# Altium footprint library ComponentLibrary.PcbLib: 153 footprints (part 3 of 10)
Each footprint in its own frame and in the unit in brackets; x right, y up, seen from the top. Pads: shape width x height; smd on the part's side, far side on the other; paste and mask are expansions set on the pad; w line width, h text height; cw(c..) or ccw(c..) is an arc to the next point about the centre after c.
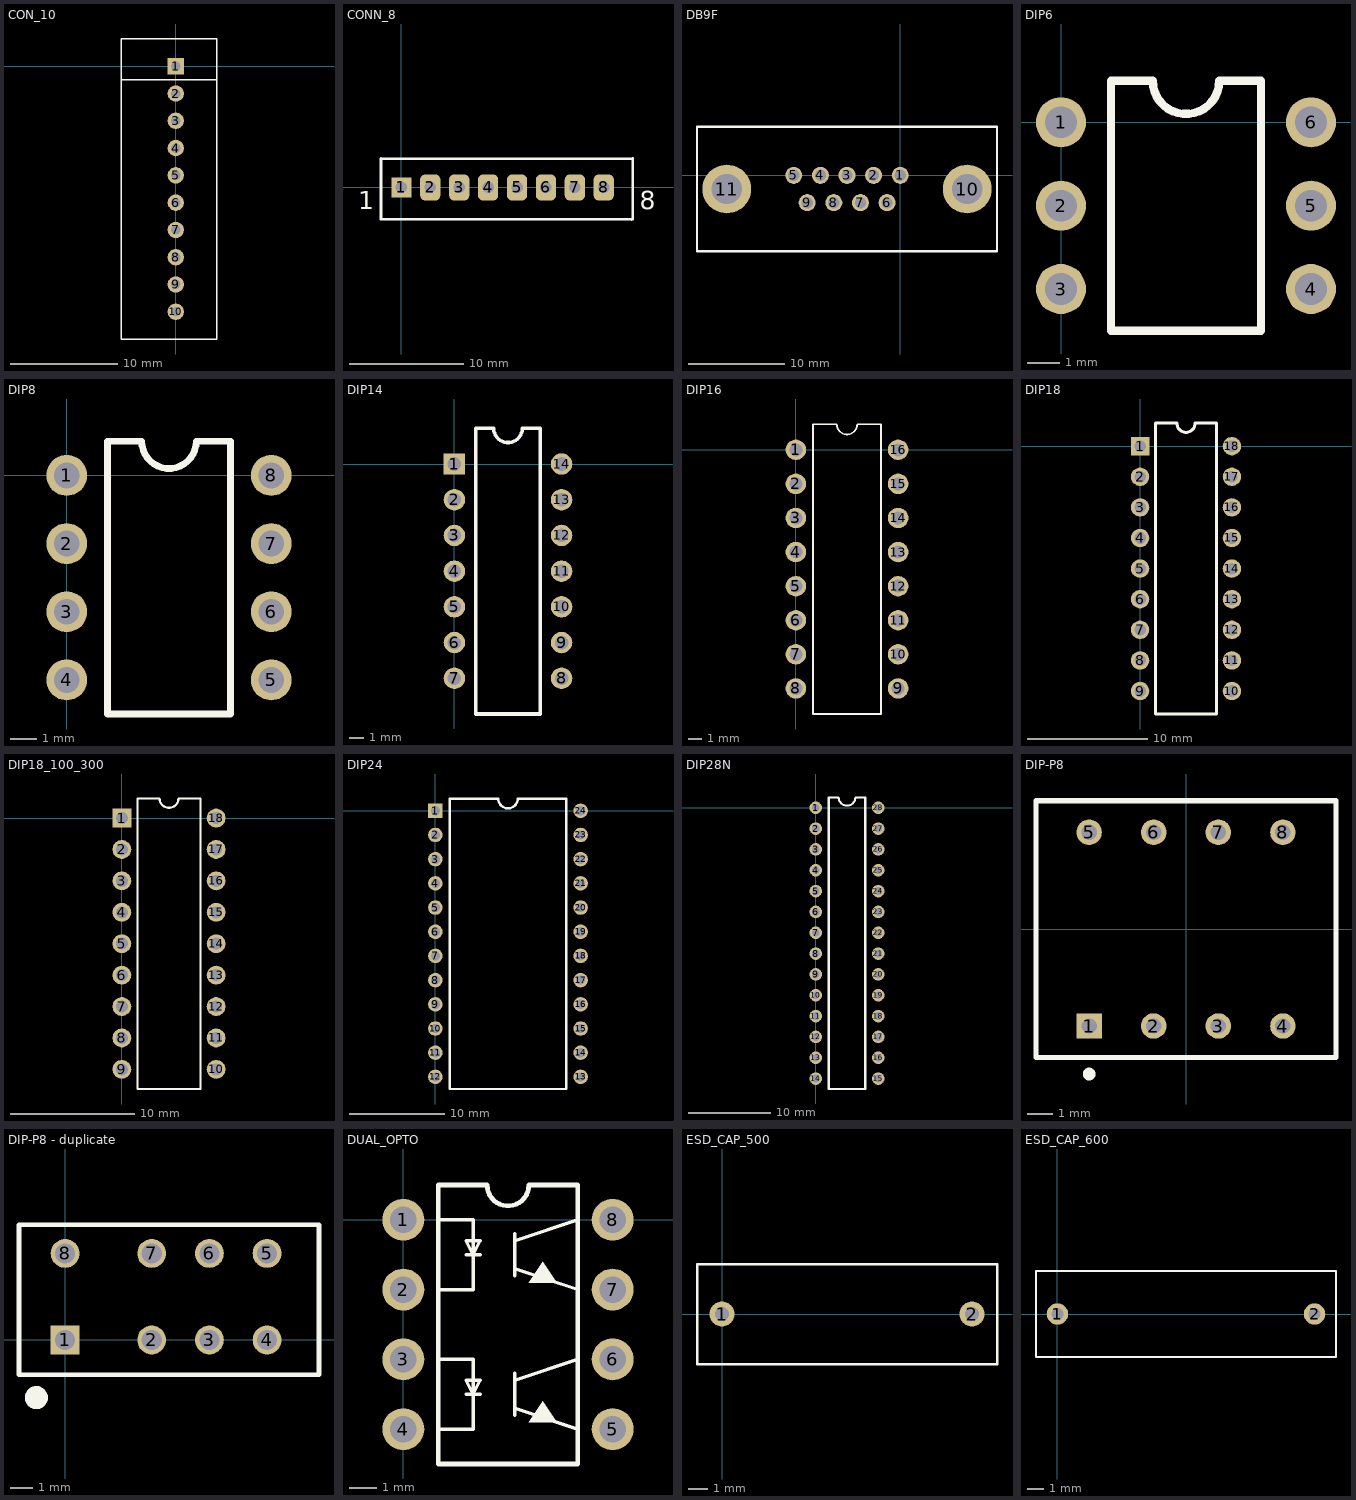
[diagram p2: the footprints below, top view; thin cyan lines are the x and y axes]

## CON_10 [mil]
pads (10):
  rect 60x60 hole 35: 1(0,0)
  round 60 hole 35: 2(0,-100) 3(0,-200) 4(0,-300) 5(0,-400) 6(0,-500) 7(0,-600) 8(0,-700) 9(0,-800) 10(0,-900)
Top Overlay:
  lines w5: -200,-50 150,-50 ; -200,-1000 150,-1000 150,100 -200,100 -200,-1000

## CONN_8 [mil]
pads (8):
  rect 70x70 hole 40: 1(0,0)
  rrect50% 70x90 hole 40: 2(100,0) 3(200,0) 4(300,0) 5(400,0) 6(500,0) 7(600,0) 8(700,0)
Top Overlay:
  lines w10: 796,-111 -70,-110 -70,100 796,99 ; 800,-110 800,100
  text "8" at 825,-75 h62.5
  text "1" at -150,-75 h62.5

## DB9F [mil]
pads (11):
  round 70 hole 46: 1(0,0) 2(-109,0) 3(-218,0) 4(-327,0) 5(-436,0) 6(-54,-112) 7(-163,-112) 8(-272,-112) 9(-381,-112)
  round 200 hole 124: 10(274,-56) 11(-710,-56)
Top Overlay:
  lines w10: -832,-311 -832,199 396,199 396,-311 -832,-311

## DIP6 [mil]
pads (6):
  round 60 hole 38: 1(0,0) 2(0,-100) 3(0,-200) 4(300,-200) 5(300,-100) 6(300,0)
Top Overlay:
  lines w10: 60,-250 60,50 110,50 ccw(c150,50) 190,50 240,50 240,-250 60,-250

## DIP8 [mil]
pads (8):
  round 60 hole 38: 1(0,0) 2(0,-100) 3(0,-200) 4(0,-300) 5(300,-300) 6(300,-200) 7(300,-100) 8(300,0)
Top Overlay:
  lines w10: 60,-350 240,-350 240,50 190,50 cw(c150,50) 110,50 60,50 60,-350

## DIP14 [mil]
pads (14):
  rect 60x60 hole 38: 1(0,0)
  round 60 hole 38: 2(0,-100) 3(0,-200) 4(0,-300) 5(0,-400) 6(0,-500) 7(0,-600) 8(300,-600) 9(300,-500) 10(300,-400) 11(300,-300) 12(300,-200) 13(300,-100) 14(300,0)
Top Overlay:
  lines w10: 60,-700 240,-700 240,100 190,100 cw(c150,100) 110,100 60,100 60,-700

## DIP16 [mil]
pads (16):
  round 60 hole 38: 1(0,0) 2(0,-100) 3(0,-200) 4(0,-300) 5(0,-400) 6(0,-500) 7(0,-600) 8(0,-700) 9(300,-700) 10(300,-600) 11(300,-500) 12(300,-400) 13(300,-300) 14(300,-200) 15(300,-100) 16(300,0)
Top Overlay:
  lines w5: 50,-775 50,75 120,75 ccw(c150,75) 180,75 250,75 250,-775 50,-775

## DIP18 [mil]
pads (18):
  rect 60x60 hole 38: 1(0,0)
  round 60 hole 38: 2(0,-100) 3(0,-200) 4(0,-300) 5(0,-400) 6(0,-500) 7(0,-600) 8(0,-700) 9(0,-800) 10(300,-800) 11(300,-700) 12(300,-600) 13(300,-500) 14(300,-400) 15(300,-300) 16(300,-200) 17(300,-100) 18(300,0)
Top Overlay:
  lines w10: 50,-875 50,75 120,75 ccw(c150,75) 180,75 250,75 250,-875 50,-875

## DIP18_100_300 [mil]
pads (18):
  rect 60x60 hole 38: 1(0,0)
  round 60 hole 38: 2(0,-100) 3(0,-200) 4(0,-300) 5(0,-400) 6(0,-500) 7(0,-600) 8(0,-700) 9(0,-800) 10(300,-800) 11(300,-700) 12(300,-600) 13(300,-500) 14(300,-400) 15(300,-300) 16(300,-200) 17(300,-100) 18(300,0)
Top Overlay:
  lines w7: 50,-862.5 250,-862.5 250,62.5 180,62.5 cw(c150,62.5) 120,62.5 50,62.5 50,-862.5

## DIP24 [mil]
pads (24):
  rect 60x60 hole 38: 1(0,0)
  round 60 hole 38: 2(0,-100) 3(0,-200) 4(0,-300) 5(0,-400) 6(0,-500) 7(0,-600) 8(0,-700) 9(0,-800) 10(0,-900) 11(0,-1000) 12(0,-1100) 13(600,-1100) 14(600,-1000) 15(600,-900) 16(600,-800) 17(600,-700) 18(600,-600) 19(600,-500) 20(600,-400) 21(600,-300) 22(600,-200) 23(600,-100) 24(600,0)
Top Overlay:
  lines w10: 60,-1150 540,-1150 540,50 340,50 cw(c300,50) 260,50 60,50 60,-1150

## DIP28N [mil]
pads (28):
  round 60 hole 38: 1(0,0) 2(0,-100) 3(0,-200) 4(0,-300) 5(0,-400) 6(0,-500) 7(0,-600) 8(0,-700) 9(0,-800) 10(0,-900) 11(0,-1000) 12(0,-1100) 13(0,-1200) 14(0,-1300) 15(300,-1300) 16(300,-1200) 17(300,-1100) 18(300,-1000) 19(300,-900) 20(300,-800) 21(300,-700) 22(300,-600) 23(300,-500) 24(300,-400) 25(300,-300) 26(300,-200) 27(300,-100) 28(300,0)
Top Overlay:
  lines w10: 62.5,-1350 237.5,-1350 237.5,50 190,50 cw(c150,50) 110,50 62.5,50 62.5,-1350

## DIP-P8 [mm] "Dual-Pole Dual-Throw Relay; 8 Leads"
pads (8):
  rect 1x1 hole 0.6: 1(-3.81,-3.81)
  round 1 hole 0.6: 2(-1.27,-3.81) 3(1.27,-3.81) 4(3.81,-3.81) 5(-3.81,3.81) 6(-1.27,3.81) 7(1.27,3.81) 8(3.81,3.81)
Top Overlay:
  circle w0.25: c-3.81,-5.7 r0.125
  lines w0.2: -5.9,-5.05 -5.9,-0.635 -5.9,5.05 5.9,5.05 5.9,-5.05 -5.9,-5.05

## DIP-P8 - duplicate [mil] "DIP"
height 551.18
pads (8):
  rect 50x50 hole 35: 1(0,0)
  round 50 hole 35: 2(150,0) 3(250,0) 4(350,0) 5(350,150) 6(250,150) 7(150,150) 8(0,150)
Top Overlay:
  circle w20: c-50,-100 r10
  lines w7.87: -80,-60 440,-60 440,200 -80,200 -80,-60
Mechanical 13:
  lines w3.94: -80,-60 -80,200 440,200 440,-60 -80,-60

## DUAL_OPTO [mil]
pads (8):
  round 60 hole 38: 1(0,0) 2(0,-100) 3(0,-200) 4(0,-300) 5(300,-300) 6(300,-200) 7(300,-100) 8(300,0)
Top Overlay:
  region: 220,-290 200,-260 180,-290
  region: 220,-90 200,-60 180,-90
  lines w5: 50,-300 100,-300 100,-200 50,-200 ; 50,-100 100,-100 100,0 50,0 ; 90,-250 110,-250 ; 90,-50 110,-50 ; 160,-280 160,-220 ; 160,-270 250,-300 ; 160,-230 250,-200 ; 160,-80 160,-20 ; 160,-70 250,-100 ; 160,-30 250,0 ; 90,-230 110,-230 100,-250 90,-230 ; 90,-30 110,-30 100,-50 90,-30
  lines w7: 50,-350 50,50 120,50 ccw(c150,50) 180,50 250,50 250,-350 50,-350

## ESD_CAP_500 [mil]
pads (2):
  round 50 hole 28: 1(0,0) 2(500,0)
Top Overlay:
  lines w5: -50,-100 550,-100 550,100 -50,100 -50,-100

## ESD_CAP_600 [mil]
pads (2):
  round 50 hole 28: 1(0,0) 2(600,0)
Top Overlay:
  lines w5: -50,-100 -50,100 650,100 650,-100 -50,-100